# EAGLE library part 74FCT16240 (library BW-Active)
16x three state inverter
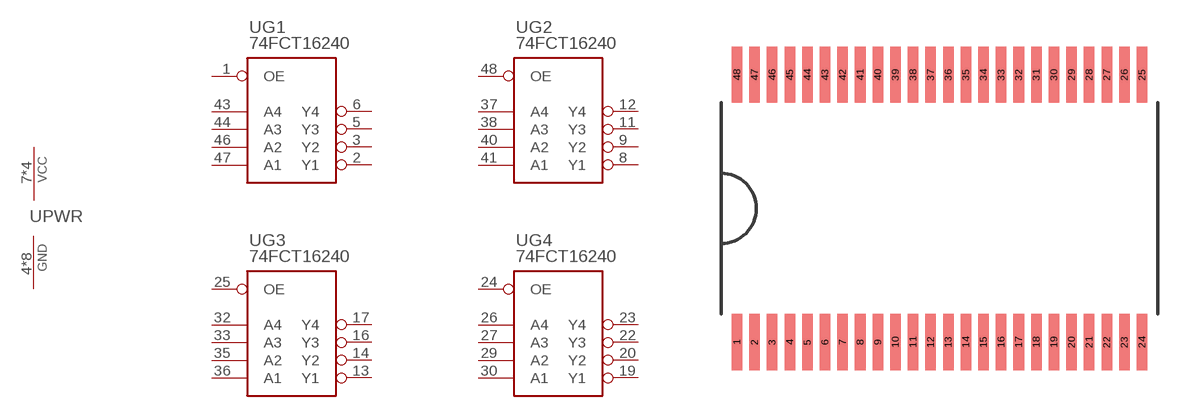
[diagram p6: symbol with the pads of SSOP48; footprint SSOP48]

Designator prefix U; gates G1=QUAD_3ST_BUFFER_INV G2=QUAD_3ST_BUFFER_INV G3=QUAD_3ST_BUFFER_INV G4=QUAD_3ST_BUFFER_INV PWR=PWRN

## 74FCT16240  [SSOP48]
1  G1:OE
2  G1:Y1
3  G1:Y2
4  PWR:GND  pwr
5  G1:Y3
6  G1:Y4
7  PWR:VCC  pwr
8  G2:Y1
9  G2:Y2
10  PWR:GND  pwr
11  G2:Y3
12  G2:Y4
13  G3:Y1
14  G3:Y2
15  PWR:GND  pwr
16  G3:Y3
17  G3:Y4
18  PWR:VCC  pwr
19  G4:Y1
20  G4:Y2
21  PWR:GND  pwr
22  G4:Y3
23  G4:Y4
24  G4:OE
25  G3:OE
26  G4:A4
27  G4:A3
28  PWR:GND  pwr
29  G4:A2
30  G4:A1
31  PWR:VCC  pwr
32  G3:A4
33  G3:A3
34  PWR:GND  pwr
35  G3:A2
36  G3:A1
37  G2:A4
38  G2:A3
39  PWR:GND  pwr
40  G2:A2
41  G2:A1
42  PWR:VCC  pwr
43  G1:A4
44  G1:A3
45  PWR:GND  pwr
46  G1:A2
47  G1:A1
48  G2:OE

## Footprint SSOP48 (pad centres in mm)
smd 0.381 x 2.032: 1 -7.303,-4.826; 2 -6.668,-4.826; 3 -6.032,-4.826; 4 -5.397,-4.826; 5 -4.763,-4.826; 6 -4.128,-4.826; 7 -3.493,-4.826; 8 -2.857,-4.826; 9 -2.223,-4.826; 10 -1.587,-4.826; 11 -0.953,-4.826; 12 -0.318,-4.826; 13 0.318,-4.826; 14 0.953,-4.826; 15 1.587,-4.826; 16 2.223,-4.826; 17 2.857,-4.826; 18 3.493,-4.826; 19 4.128,-4.826; 20 4.763,-4.826; 21 5.397,-4.826; 22 6.032,-4.826; 23 6.668,-4.826; 24 7.303,-4.826; 25 7.303,4.826; 26 6.668,4.826; 27 6.032,4.826; 28 5.397,4.826; 29 4.763,4.826; 30 4.128,4.826; 31 3.493,4.826; 32 2.857,4.826; 33 2.223,4.826; 34 1.587,4.826; 35 0.953,4.826; 36 0.318,4.826; 37 -0.318,4.826; 38 -0.953,4.826; 39 -1.587,4.826; 40 -2.223,4.826; 41 -2.857,4.826; 42 -3.493,4.826; 43 -4.128,4.826; 44 -4.763,4.826; 45 -5.397,4.826; 46 -6.032,4.826; 47 -6.668,4.826; 48 -7.303,4.826